# EAGLE library part NRF24L01+ (library pimoroni-ics)
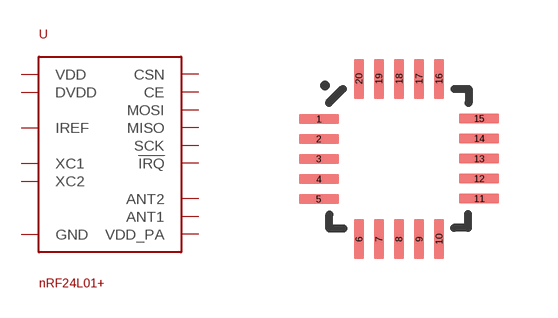
[diagram p37: symbol with the pads of QFN-20-NOPAD; footprint QFN-20-NOPAD]

Designator prefix -

## NRF24L01+  [QFN-20-NOPAD]
1  CE
2  CSN
3  SCK
4  MOSI
5  MISO
6  !IRQ
7  VDD
8  GND
9  XC2
10  XC1
11  VDD_PA
12  ANT1
13  ANT2
14  GND
15  VDD
16  IREF
17  GND
18  VDD
19  DVDD
20  GND

## Footprint QFN-20-NOPAD (pad centres in mm)
smd 1 x 0.25: 1 -2.005,1; 2 -2.005,0.502; 3 -2.005,0.004; 4 -2.005,-0.504; 5 -2.005,-1.002; 11 2.005,-0.99; 12 2.005,-0.492; 13 2.005,0.006; 14 2.005,0.514; 15 2.005,1.012
smd 0.25 x 1: 6 -1,-2.005; 7 -0.502,-2.005; 8 -0.004,-2.005; 9 0.504,-2.005; 10 1.002,-2.005; 16 1,2.005; 17 0.502,2.005; 18 0.004,2.005; 19 -0.504,2.005; 20 -1.002,2.005